# Altium footprint library LiPoBattery_A.PcbLib: 14 footprints
Each footprint in its own frame and in the unit in brackets; x right, y up, seen from the top. Pads: shape width x height; smd on the part's side, far side on the other; paste and mask are expansions set on the pad; w line width, h text height; cw(c..) or ccw(c..) is an arc to the next point about the centre after c.
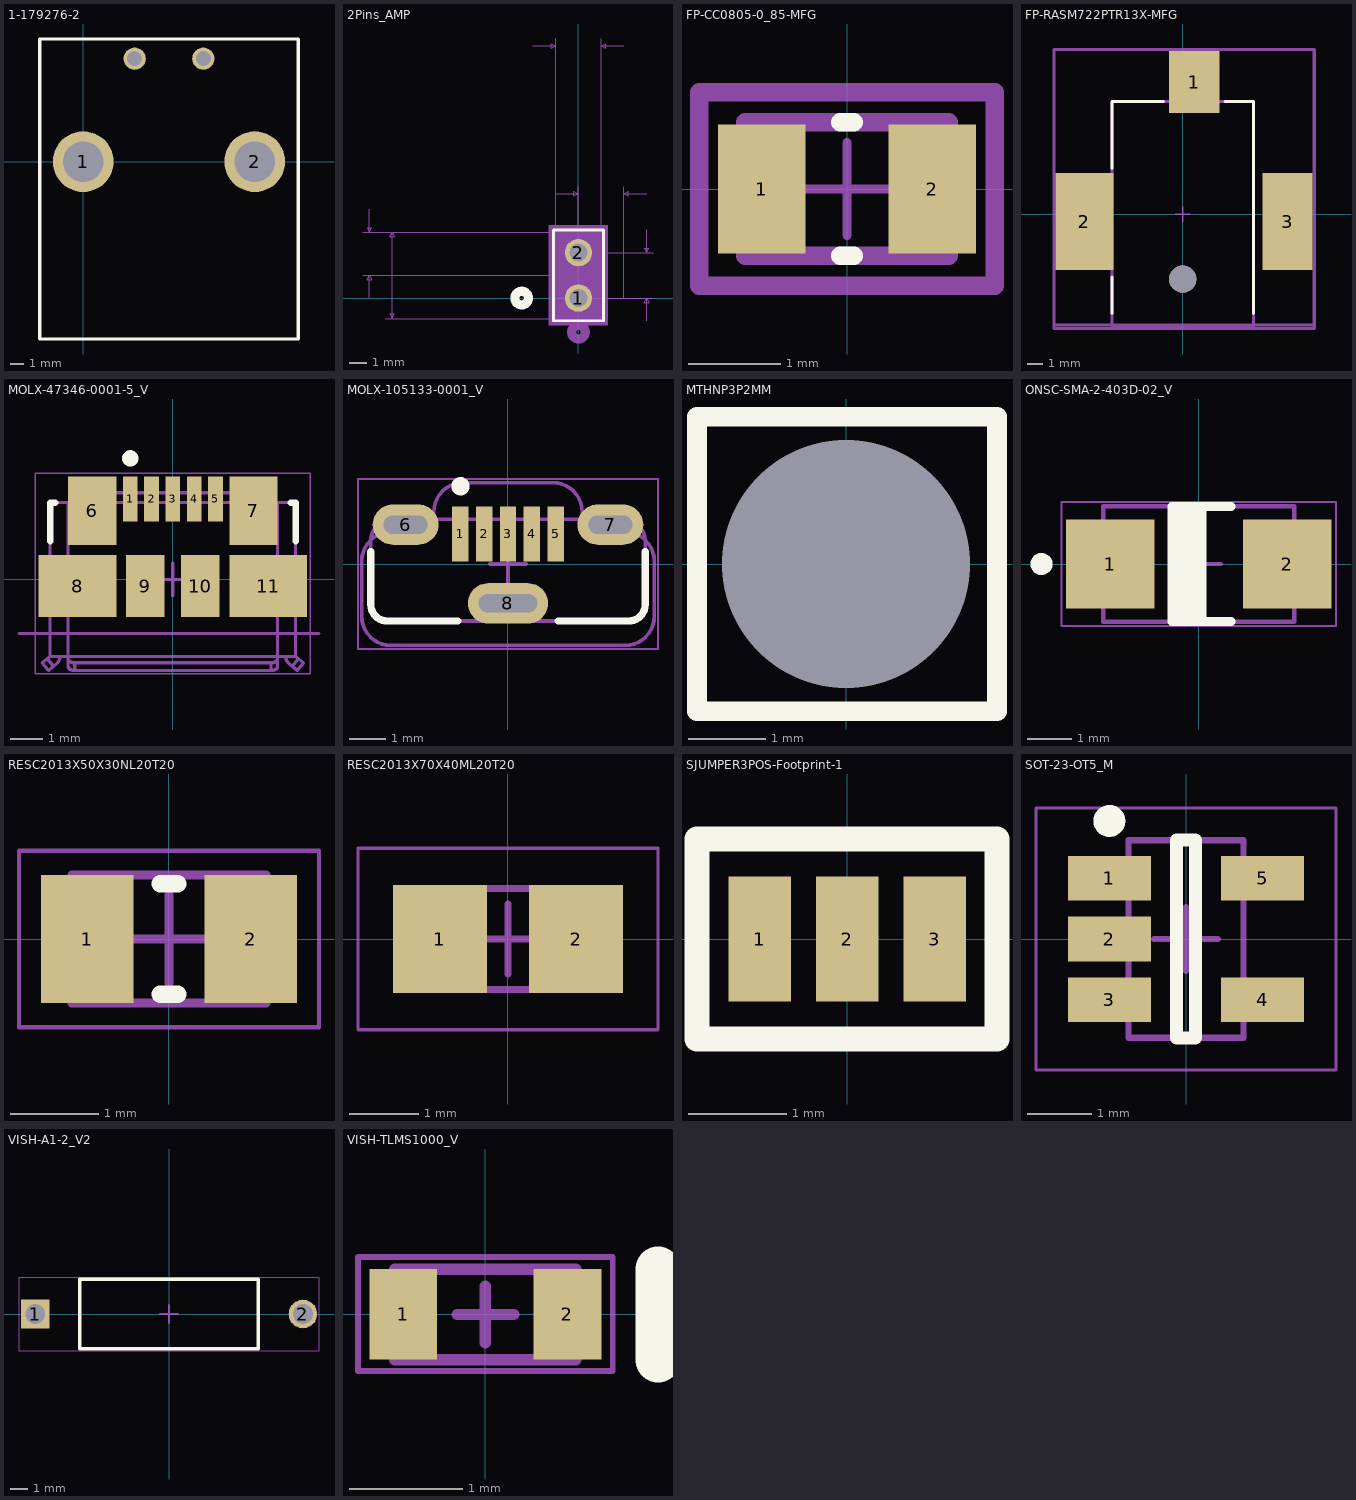
[diagram p0: the footprints below, top view; thin cyan lines are the x and y axes]

## 1-179276-2 [mm]
pads (4):
  round 4.5 hole 3: 1(0,0) 2(12.7,0)
  round 1.65 hole 1.1: ""(3.81,7.62) ""(8.89,7.62)
Top Overlay:
  lines w0.254: -3.2,-13.125 -3.2,-2.025 -3.2,9.075 15.9,9.075 15.9,-13.125 -3.2,-13.125
  text ".Designator" at -0.821,10.087 h1.52
3D body "c-0179276-12-b-3d.stp": height 10.86, standoff -3.79, extent -3.015,-13.55 16.065,8.55

## 2Pins_AMP [mil]
pads (2):
  round 60 hole 40 mask+0: 1(0,0) 2(0,100)
Top Overlay:
  circle w20: c-125,0 r15
  lines w6: -55,-50 -55,150 55,150 55,-50 -55,-50
Bottom Overlay:
  circle w20: c-125,0 r15
Top Assembly:
  region: -65,160 65,160 65,-60 -65,-60
Mechanical 7:
  lines w1: -475,50 0,50 ; -475,145 -50,145 ; -460,0 -460,50 ; -460,195 -460,145 ; -425,-45 -50,-45 ; -425,145 -50,145 ; -100,555 -50,555 ; -50,230 0,230 ; -50,570 -50,145 ; 0,100 165,100 ; 0,245 0,0 165,0 ; 50,145 50,570 ; 100,0 100,245 ; 100,555 50,555 ; 150,-50 150,0 ; 150,150 150,100 ; 150,230 100,230 ; -460,50 -455,40 -465,40 -460,50 ; -460,145 -455,155 -465,155 -460,145 ; -410,-45 -405,-35 -415,-35 -410,-45 ; -410,-45 -410,145 ; -410,145 -405,135 -415,135 -410,145 ; -50,555 -60,550 -60,560 -50,555 ; 0,230 -10,225 -10,235 0,230 ; 50,555 60,550 60,560 50,555 ; 100,230 110,225 110,235 100,230 ; 150,0 155,-10 145,-10 150,0 ; 150,100 155,110 145,110 150,100
  text "0.19in/4.826mm" at -605,37.5 h25
  text "0.095in/2.413mm" at -667.5,85 h25
  text "0.1in/2.54mm" at 170,37.5 h25
  text "0.1in/2.54mm" at -75,575 h25
  text "0.1in/2.54mm" at -125,250 h25
  text "Alt Padstyle 2: OX90Y60D30P" at -337.5,-730 h50
  text "Alt Padstyle 1: OX60Y90D30P" at -337.5,-655 h50
  text "Right Mtg Padstyle: EX60Y60D30P" at -387.5,-580 h50
  text "Left Mtg Padstyle: EX60Y60D30P" at -375,-505 h50
  text "3rd Mtg Padstyle: EX70Y70D70P" at -362.5,-430 h50
  text "2nd Mtg Padstyle: EX70Y70D70P" at -362.5,-355 h50
  text "1st Mtg Padstyle: EX80Y80D50P" at -362.5,-280 h50
  text "Default Padstyle: EX60Y60D40P" at -362.5,-205 h50
Top 3D Body:
  circle w20: c0,-75 r15
  lines w1: -50,-45 -50,145 50,145 50,-45 -50,-45
Top Courtyard:
  region: 60,155 -60,155 -60,-55 60,-55
  lines w6: -60,-55 60,-55 60,155 -60,155 -60,-55
3D body: height 10, standoff 0, extent 0,0 10,10

## FP-CC0805-0_85-MFG [mm]
pads (2):
  rect 0.95x1.4 smd paste+0 mask+0: 1(-0.925,0) 2(0.925,0)
Top Overlay:
  lines w0.2: -0.075,-0.725 0.075,-0.725 ; -0.075,0.725 0.075,0.725
Top Assembly:
  lines w0.2: -1.6,-1.05 1.6,-1.05 1.6,1.05 -1.6,1.05 -1.6,-1.05
  text ".Designator" at 0,0.188 h1
Top 3D Body:
  lines w0.2: -1.1,-0.725 1.1,-0.725 1.1,0.725 -1.1,0.725 -1.1,-0.725
Top Courtyard:
  lines w0.2: -1.6,-1.05 1.6,-1.05 1.6,1.05 -1.6,1.05 -1.6,-1.05
Top Component Center:
  lines w0.1: -0.5,0 0.5,0 ; 0,-0.5 0,0.5
3D body "Cap_Yageo_CC0805KKX7R7BB105_eec.STEP": height 0.25, standoff 0, extent -1.6,-1.05 1.6,1.05

## FP-RASM722PTR13X-MFG [mm]
pads (4):
  rect 3.3x4.06 smd paste+0 mask+0: 1(0.76,8.65)
  rect 3.81x6.35 smd paste+0 mask+0: 2(-6.43,-0.49)
  rect 3.3x6.35 smd paste+0 mask+0: 3(6.86,-0.49)
  round 1.78 hole 1.78 unplated paste-1000 mask+0: ""(0,-4.25)
Top Overlay:
  lines w0.2: -4.627,-6.5 -4.627,-4.1 ; -4.627,3 -4.627,7.377 -1.265,7.377 ; 2.785,7.377 4.627,7.377 4.627,-6.5
Top Assembly:
  lines w0.2: -8.435,-7.477 8.61,-7.477 8.61,10.78 -8.435,10.78 -8.435,-7.477
  text ".Designator" at 0.087,1.839 h1
Top 3D Body:
  lines w0.2: -8.435,-7.25 8.61,-7.25 ; -4.627,-7.377 4.627,-7.377 4.627,7.377 -4.627,7.377 -4.627,-7.377
Top Courtyard:
  lines w0.2: -8.435,-7.477 8.61,-7.477 8.61,10.78 -8.435,10.78 -8.435,-7.477
Top Component Center:
  lines w0.1: -0.5,0 0.5,0 ; 0,-0.5 0,0.5
3D body "Conn_Switchcraft_RASM722PTR13X_eec.STEP": height 0.25, standoff 0, extent -8.435,-7.477 8.61,10.78

## MOLX-47346-0001-5_V [mm] "SMD, 5-Leads, Body 7.5x5mm, Pitch 0.65mm"
height 2.94
pads (11):
  rect 0.45x1.38 smd: 1(-1.3,2.46) 2(-0.65,2.46) 3(0,2.46) 4(0.65,2.46) 5(1.3,2.46)
  rect 1.475x2.1 smd: 6(-2.462,2.1) 7(2.462,2.1)
  rect 2.375x1.9 smd: 8(-2.913,-0.2) 11(2.913,-0.2)
  rect 1.175x1.9 smd: 9(-0.837,-0.2) 10(0.837,-0.2)
Top Overlay:
  circle w0.25: c-1.3,3.7 r0.125
  lines w0.2: -3.75,1.165 -3.75,2.35 -3.6,2.35 ; 3.6,2.35 3.75,2.35 3.75,1.165
Mechanical 6:
  lines w0.1: -4.7,-1.65 4.465,-1.65
  text "PCB EDGE" at -7.2,-1.757 h0.3
Top 3D Body:
  drawing of 439 lines, arcs and shapes, not listed
Top Courtyard:
  lines w0.05: -4.2,-2.88 -4.2,3.25 4.2,3.25 4.2,-2.88 -4.2,-2.88
  lines w0.1: -0.5,0 0.5,0 ; 0,-0.5 0,0.5
3D body "473460001.stp": height 2.69, standoff -0.25, extent -3.99,-2.78 3.99,2.65

## MOLX-105133-0001_V [mm]
pads (8):
  rect 0.45x1.5 smd: 1(-1.3,0.825) 2(-0.65,0.825) 3(0,0.825) 4(0.65,0.825) 5(1.3,0.825)
  oval 1.8x1.1 hole 0.5 slot 1.2 at 0 deg: 6(-2.8,1.075) 7(2.8,1.075)
  oval 2.2x1.1 hole 0.5 slot 1.6 at 0 deg: 8(0,-1.075)
Top Overlay:
  circle w0.25: c-1.3,2.125 r0.125
  lines w0.2: -3.75,0.338 -3.75,-1.11 ccw(c-3.3,-1.11) -3.3,-1.56 -1.367,-1.56 ; 1.367,-1.56 3.3,-1.56 ccw(c3.3,-1.11) 3.75,-1.11 3.75,0.338
Top 3D Body:
  lines w0.1: -4,-1.425 ccw(c-3.2,-1.425) -3.2,-2.225 3.2,-2.225 ccw(c3.2,-1.425) 4,-1.425 4,0.075 ccw(c3.2,0.075) 3.2,0.875 2.025,0.875 2.025,1.425 ccw(c1.225,1.425) 1.225,2.225 -1.225,2.225 ccw(c-1.225,1.425) -2.025,1.425 -2.025,0.875 -3.2,0.875 ccw(c-3.2,0.075) -4,0.075 -4,-1.425 ; -3.75,-1.11 ccw(c-3.3,-1.11) -3.3,-1.56 3.3,-1.56 ccw(c3.3,-1.11) 3.75,-1.11 3.75,0.565 ccw(c3.145,0.62) 3.2,1.225 -3.2,1.225 ccw(c-3.145,0.62) -3.75,0.565 -3.75,-1.11
Top Courtyard:
  lines w0.05: -4.1,-2.325 4.1,-2.325 4.1,2.325 -4.1,2.325 -4.1,-2.325
  lines w0.1: -0.5,0 0.5,0 ; 0,-0.5 0,0.5
3D body "1051330001.stp": height 7.51, standoff -2.29, extent -4.025,-2.225 4,2.225

## MTHNP3P2MM [mm]
pads (1):
  round 1 hole 3.2: ""(0,0)
Top Overlay:
  lines w0.254: -1.925,-1.9 -1.925,0.225 -1.925,1.9 1.95,1.9 1.95,0.987 1.95,-0.837 1.95,-1.9 -1.925,-1.9

## ONSC-SMA-2-403D-02_V [mm]
pads (2):
  rect 2x2 smd: 1(-2,0) 2(2,0)
Top Overlay:
  circle w0.25: c-3.55,0 r0.125
  rectangle: -0.6,-1.3 0.178,1.3
  lines w0.2: 0.735,-1.3 -0.6,-1.3 -0.6,1.3 0.735,1.3
Top 3D Body:
  lines w0.1: -2.16,-1.3 -2.16,1.3 2.16,1.3 2.16,-1.3 -2.16,-1.3
Top Courtyard:
  lines w0.05: -3.1,-1.4 3.1,-1.4 3.1,1.4 -3.1,1.4 -3.1,-1.4
  lines w0.1: -0.5,0 0.5,0 ; 0,-0.5 0,0.5
3D body: height 2.2, standoff 0.05, extent -2.16,-1.3 2.16,1.3

## RESC2013X50X30NL20T20 [mm]
pads (2):
  rect 1.05x1.45 smd: 1(-0.925,0) 2(0.925,0)
Top Overlay:
  lines w0.2: -0.1,-0.625 0.1,-0.625 ; -0.1,0.625 0.1,0.625
Top 3D Body:
  lines w0.1: -1.1,-0.725 1.1,-0.725 1.1,0.725 -1.1,0.725 -1.1,-0.725
Top Courtyard:
  lines w0.05: -1.7,-1 1.7,-1 1.7,1 -1.7,1 -1.7,-1
  lines w0.1: -0.5,0 0.5,0 ; 0,-0.5 0,0.5
3D body: height 0.5, standoff 0, extent 0.8,-0.725 1.1,0.725
3D body: height 0.5, standoff 0, extent -1.1,-0.725 -0.8,0.725
3D body: height 0.5, standoff 0, extent -0.8,-0.725 0.8,0.725

## RESC2013X70X40ML20T20 [mm]
pads (2):
  rect 1.35x1.55 smd: 1(-0.975,0) 2(0.975,0)
Top 3D Body:
  lines w0.1: -1.1,-0.725 1.1,-0.725 1.1,0.725 -1.1,0.725 -1.1,-0.725
Top Courtyard:
  lines w0.05: -2.15,-1.3 2.15,-1.3 2.15,1.3 -2.15,1.3 -2.15,-1.3
  lines w0.1: -0.5,0 0.5,0 ; 0,-0.5 0,0.5
3D body: height 0.7, standoff 0, extent 0.7,-0.725 1.1,0.725
3D body: height 0.7, standoff 0, extent -1.1,-0.725 -0.7,0.725
3D body: height 0.7, standoff 0, extent -0.7,-0.725 0.7,0.725

## SJUMPER3POS-Footprint-1 [mil]
pads (3):
  rect 25x50 smd: 1(-35,0) 2(0,0) 3(35,0)
Top Overlay:
  lines w10: -60,-40 -60,-10 -60,40 60,40 60,-40 -60,-40
  text ".Designator" at -190,69.99 h60

## SOT-23-OT5_M [mm]
pads (5):
  rect 1.3x0.7 smd: 1(-1.2,0.95) 2(-1.2,0) 3(-1.2,-0.95) 4(1.2,-0.95) 5(1.2,0.95)
Top Overlay:
  circle w0.25: c-1.2,1.85 r0.125
  lines w0.2: -0.15,-1.55 -0.15,1.55 0.15,1.55 0.15,-1.55 -0.15,-1.55
Top 3D Body:
  lines w0.1: -0.9,-1.55 0.9,-1.55 0.9,1.55 -0.9,1.55 -0.9,-1.55
Top Courtyard:
  lines w0.05: -2.35,-2.05 2.35,-2.05 2.35,2.05 -2.35,2.05 -2.35,-2.05
  lines w0.1: -0.5,0 0.5,0 ; 0,-0.5 0,0.5
3D body: height 1.45, standoff 0, extent -0.9,-1.55 0.9,1.55

## VISH-A1-2_V2 [mm]
pads (2):
  rect 1.6x1.6 hole 1.1: 1(-7.5,0)
  round 1.6 hole 1.1: 2(7.5,0)
Top Overlay:
  lines w0.2: -5,-1.95 5,-1.95 5,1.95 -5,1.95 -5,-1.95
Top 3D Body:
  lines w0.1: 4.996,1.95 5,1.946 5,-1.95 -5,-1.95 -5,1.95 5,1.95
Top Courtyard:
  lines w0.05: -8.4,-2.05 -8.4,2.05 8.4,2.05 8.4,-2.05 -8.4,-2.05
  lines w0.1: -0.5,0 0.5,0 ; 0,-0.5 0,0.5
3D body: height 2.36, standoff 1.54, extent -7.5,-0.414 7.5,0.414
3D body: height 2.37, standoff 1.54, extent 7.089,-0.413 7.915,0.413
3D body: height 2.37, standoff 1.54, extent -7.911,-0.413 -7.085,0.413
3D body: height 1.95, standoff -2, extent 7.088,-0.414 7.915,0.414
3D body: height 1.95, standoff -2, extent -7.912,-0.414 -7.085,0.414
3D body: height 3.88, standoff 0, extent -5,-1.946 5,1.946

## VISH-TLMS1000_V [mm]
pads (2):
  rect 0.6x0.8 smd: 1(-0.725,0) 2(0.725,0)
Top Overlay:
  lines w0.4: 1.525,-0.4 1.525,0.4
Top 3D Body:
  lines w0.1: -0.8,-0.4 -0.8,0.4 0.8,0.4 0.8,-0.4 -0.8,-0.4
Top Courtyard:
  lines w0.05: -1.125,0.5 -1.125,-0.5 1.125,-0.5 1.125,0.5 ; -1.125,0.508 1.125,0.508
  lines w0.1: -0.25,0 0.25,0 ; 0,-0.25 0,0.25
3D body: height 0.65, standoff 0, extent -0.8,-0.4 0.8,0.4